# EAGLE library part ISO1724_STECKER (library ISO1724)
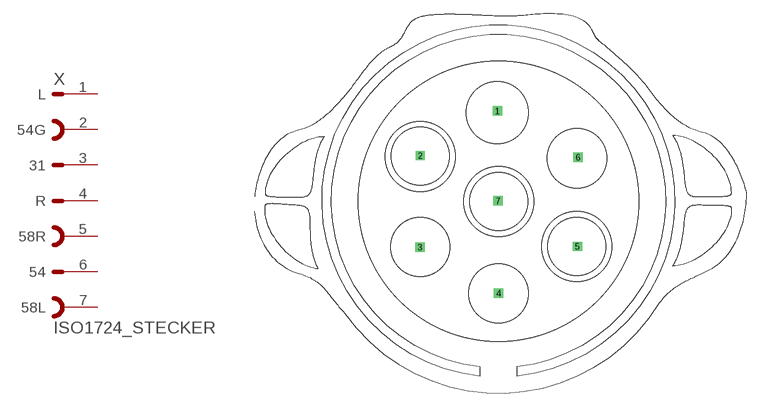
[diagram p1: symbol with the pads of ISO1724_STECKER; footprint ISO1724_STECKER]

Designator prefix X

## ISO1724_STECKER (ARTIKEL_NR: 416964)  [ISO1724_STECKER]
1  L
2  54G
3  31
4  R
5  58R
6  54
7  58L

## Footprint ISO1724_STECKER (pad centres in mm)
Dummy
drill 0.5 pad 1 square: 1 -0.101,9.765; 2 -8.46,4.92; 3 -8.499,-5.005; 4 0.004,-10.005; 5 8.556,-4.925; 6 8.631,4.734; 7 -0.046,0.013